# Altium footprint library PcbLib1.PcbLib: 64 footprints (part 4 of 4)
Each footprint in its own frame and in the unit in brackets; x right, y up, seen from the top. Pads: shape width x height; smd on the part's side, far side on the other; paste and mask are expansions set on the pad; w line width, h text height; cw(c..) or ccw(c..) is an arc to the next point about the centre after c.
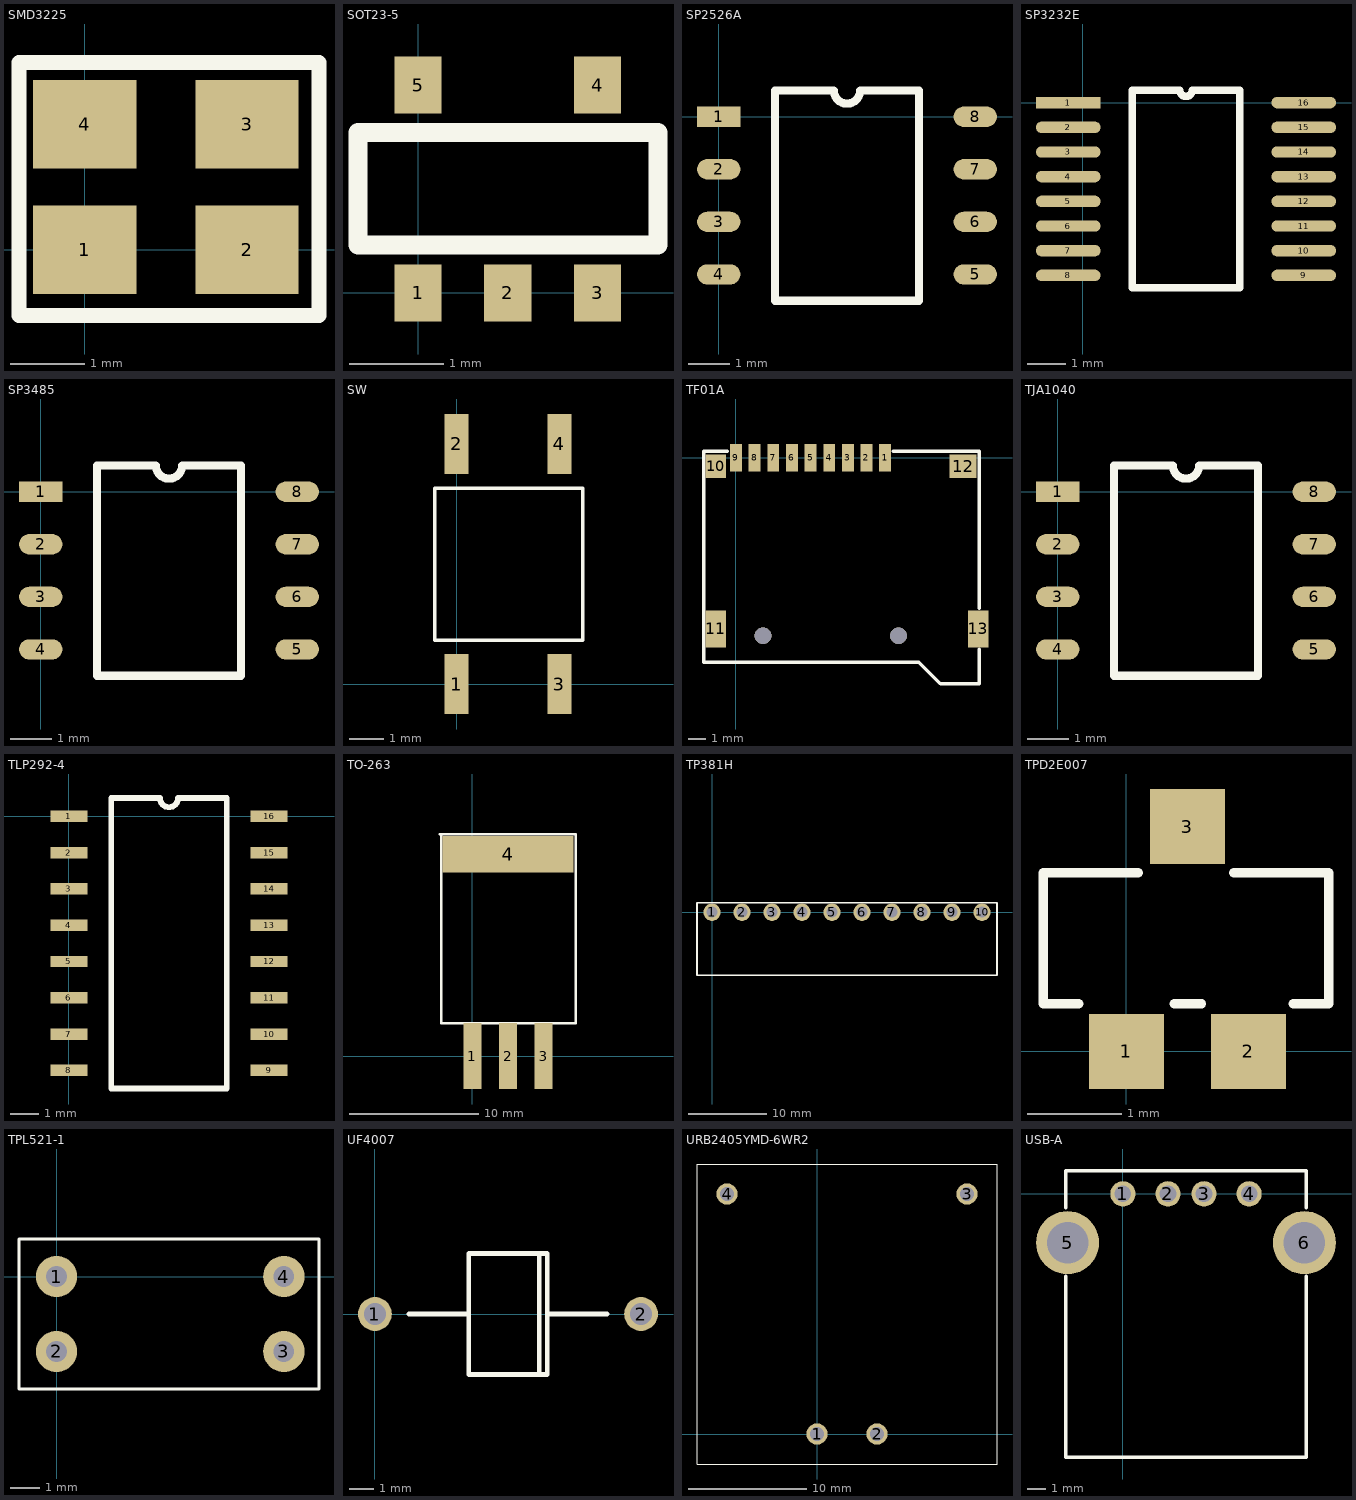
[diagram p3: the footprints below, top view; thin cyan lines are the x and y axes]

## SMD3225 [mm]
pads (4):
  rect 1.4x1.2 smd: 1(0,0) 2(2.2,0) 3(2.2,1.7) 4(0,1.7)
Top Overlay:
  lines w0.2: -0.889,-0.889 3.175,-0.889 3.175,2.54 -0.762,2.54 -0.889,2.54 -0.889,-0.889

## SOT23-5 [mm]
pads (5):
  rect 0.5x0.6 smd: 1(0,0) 2(0.95,0) 3(1.9,0) 4(1.9,2.2) 5(0,2.2)
Top Overlay:
  lines w0.2: -0.635,0.508 -0.635,1.7 2.54,1.7 2.54,0.508 -0.635,0.508

## SP2526A [mm]
pads (8):
  rect 1.05x0.49 smd: 1(0,0)
  oval 1.05x0.49 smd: 2(0,-1.27) 3(0,-2.54) 4(0,-3.81) 5(6.2,-3.81) 6(6.2,-2.54) 7(6.2,-1.27) 8(6.2,0)
Top Overlay:
  lines w0.2: 1.36,-4.445 1.36,0.635 2.782,0.635 ccw(c3.1,0.635) 3.417,0.635 4.84,0.635 4.84,-4.445 1.36,-4.445

## SP3232E [mm]
pads (16):
  rect 1.7x0.3 smd: 1(-0.375,0)
  oval 1.7x0.3 smd: 2(-0.375,-0.65) 3(-0.375,-1.3) 4(-0.375,-1.95) 5(-0.375,-2.6) 6(-0.375,-3.25) 7(-0.375,-3.9) 8(-0.375,-4.55) 9(5.825,-4.55) 10(5.825,-3.9) 11(5.825,-3.25) 12(5.825,-2.6) 13(5.825,-1.95) 14(5.825,-1.3) 15(5.825,-0.65) 16(5.825,0)
Top Overlay:
  lines w0.2: 1.31,-4.875 4.14,-4.875 4.14,0.325 2.887,0.325 cw(c2.725,0.325) 2.562,0.325 1.31,0.325 1.31,-4.875

## SP3485 [mm]
pads (8):
  rect 1.05x0.49 smd: 1(0,0)
  oval 1.05x0.49 smd: 2(0,-1.27) 3(0,-2.54) 4(0,-3.81) 5(6.2,-3.81) 6(6.2,-2.54) 7(6.2,-1.27) 8(6.2,0)
Top Overlay:
  lines w0.2: 1.36,-4.445 1.36,0.635 2.782,0.635 ccw(c3.1,0.635) 3.417,0.635 4.84,0.635 4.84,-4.445 1.36,-4.445

## SW [mm]
pads (4):
  rect 0.7x1.75 smd: 1(0,0) 2(0,7) 3(3,0) 4(3,7)
Top Overlay:
  lines w0.1: -0.635,1.27 3.683,1.27 3.683,5.715 -0.635,5.715 -0.635,1.27

## TF01A [mm]
pads (13):
  rect 0.7x1.6 smd: 1(8.8,0) 2(7.7,0) 3(6.6,0) 4(5.5,0) 5(4.4,0) 6(3.3,0) 7(2.2,0) 8(1.1,0) 9(0,0)
  rect 1.2x1.4 smd: 10(-1.2,-0.5)
  rect 1.2x2.2 smd: 11(-1.2,-10.1) 13(14.3,-10.1)
  rect 1.6x1.4 smd: 12(13.4,-0.5)
via 1.6,-10.5 diameter 1 hole 1
via 9.6,-10.5 diameter 1 hole 1
Top Overlay:
  lines w0.2: -0.508,0.381 -1.905,0.381 -1.905,-12.065 10.795,-12.065 12.065,-13.335 14.351,-13.335 14.351,-11.303 ; 9.271,0.381 13.843,0.381 14.351,0.381 14.351,-8.89

## TJA1040 [mm]
pads (8):
  rect 1.05x0.49 smd: 1(0,0)
  oval 1.05x0.49 smd: 2(0,-1.27) 3(0,-2.54) 4(0,-3.81) 5(6.2,-3.81) 6(6.2,-2.54) 7(6.2,-1.27) 8(6.2,0)
Top Overlay:
  lines w0.2: 1.36,-4.445 4.84,-4.445 4.84,0.635 3.417,0.635 cw(c3.1,0.635) 2.782,0.635 1.36,0.635 1.36,-4.445

## TLP292-4 [mm]
pads (16):
  rect 1.3x0.4 smd: 1(0,0) 2(0,-1.27) 3(0,-2.54) 4(0,-3.81) 5(0,-5.08) 6(0,-6.35) 7(0,-7.62) 8(0,-8.89) 9(7,-8.89) 10(7,-7.62) 11(7,-6.35) 12(7,-5.08) 13(7,-3.81) 14(7,-2.54) 15(7,-1.27) 16(7,0)
Top Overlay:
  lines w0.2: 1.485,-9.525 1.485,0.635 3.183,0.635 ccw(c3.5,0.635) 3.818,0.635 5.515,0.635 5.515,-9.525 1.485,-9.525

## TO-263 [mm]
pads (4):
  rect 1.37x5.1 smd: 1(0,0) 2(2.75,0) 3(5.5,0)
  rect 10.1x2.8 smd: 4(2.75,15.6)
Top Overlay:
  lines w0.2: -2.54,17.145 8.001,17.145 8.001,2.54 -2.413,2.54 -2.413,17.018

## TP381H [mm]
pads (10):
  round 2.2 hole 1.4: 1(0,0) 2(3.81,0) 3(7.62,0) 4(11.43,0) 5(15.24,0) 6(19.05,0) 7(22.86,0) 8(26.67,0) 9(30.48,0) 10(34.29,0)
Top Overlay:
  lines w0.2: -1.905,-8 36.195,-8 36.195,1.2 -1.905,1.2 -1.905,-8

## TPD2E007 [mm]
pads (3):
  rect 0.8x0.8 smd: 1(0,0) 2(1.3,0) 3(0.65,2.4)
Top Overlay:
  lines w0.1: -0.508,0.508 -0.889,0.508 -0.889,1.905 0.127,1.905 ; 0.508,0.508 0.8,0.508 ; 1.143,1.905 2.159,1.905 2.159,0.508 1.778,0.508

## TPL521-1 [mm]
pads (4):
  round 1.4 hole 0.7: 1(0,0) 2(0,-2.54) 3(7.7,-2.54) 4(7.7,0)
Top Overlay:
  lines w0.1: -1.27,-3.81 8.89,-3.81 8.89,1.27 -1.27,1.27 -1.27,-3.81

## UF4007 [mm]
pads (2):
  round 1.4 hole 0.9: 1(0,0) 2(11,0)
Top Overlay:
  lines w0.2: 1.4,0 3.875,0 ; 6.792,-2.5 6.792,2.5 ; 7.125,0 9.6,0 ; 3.875,0 3.875,-2.5 7.125,-2.5 7.125,2.5 3.875,2.5 3.875,0

## URB2405YMD-6WR2 [mm]
pads (4):
  round 1.8 hole 1.2: 1(0,0) 2(5.08,0) 3(12.7,20.32) 4(-7.62,20.32)
Top Overlay:
  lines w0.1: -10.16,-2.54 15.24,-2.54 15.24,22.86 -10.16,22.86 -10.16,-2.54

## USB-A [mm]
pads (6):
  round 1.4 hole 0.92: 1(0,0) 2(2.5,0) 3(4.5,0) 4(7,0)
  round 3.5 hole 2.3: 5(-3.07,-2.71) 6(10.07,-2.71)
Top Overlay:
  lines w0.2: -3.175,-4.572 -3.175,-14.605 10.16,-14.605 10.16,-4.572 ; -3.175,-0.762 -3.175,1.27 10.16,1.27 10.16,-0.762